# EAGLE library part DECODER (library SN74hc138dbr)
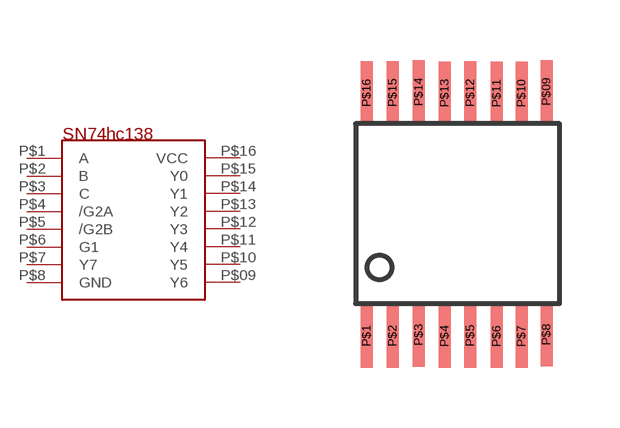
[diagram p0: symbol with the pads of SSOP16; footprint SSOP16]

Designator prefix -

## DECODER  [SSOP16]
P$1  A
P$2  B
P$3  C
P$4  /G2A
P$5  /G2B
P$6  G1
P$7  Y7
P$8  GND
P$09  Y6
P$10  Y5
P$11  Y4
P$12  Y3
P$13  Y2
P$14  Y1
P$15  Y0
P$16  VCC

## Footprint SSOP16 (pad centres in mm)
smd 0.3 x 1.59: P$1 0.28,-0.81; P$2 0.93,-0.81; P$3 1.58,-0.79; P$4 2.23,-0.82; P$5 2.87,-0.81; P$6 3.53,-0.82; P$7 4.15,-0.82; P$8 4.775,-0.78; P$09 4.775,5.3; P$10 4.15,5.26; P$11 3.53,5.26; P$12 2.87,5.27; P$13 2.23,5.26; P$14 1.58,5.29; P$15 0.93,5.27; P$16 0.28,5.27